# EAGLE library part GP2Y0D810Z0F (library SharpGP2Y0D810Z0F)
Sharpt GP2Y0D810Z0F 10cm IR proximity sensor
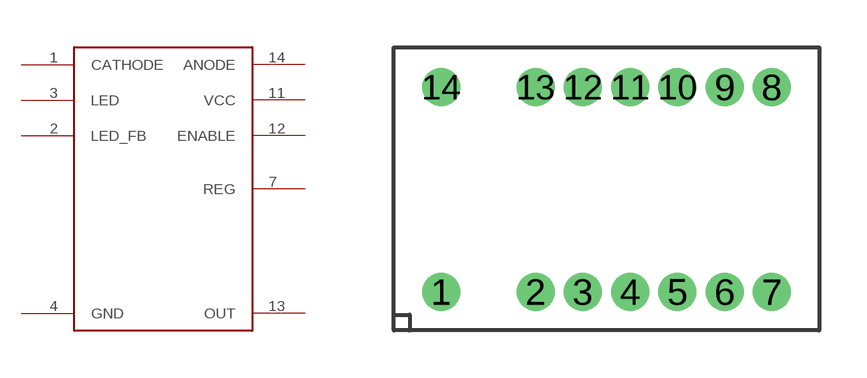
[diagram p0: symbol with the pads of LP16PIN; footprint LP16PIN]

Designator prefix -

## GP2Y0D810Z0F  [LP16PIN]
1  CATHODE  in
2  LED_FB  in
3  LED  in
4  GND  in
7  REG  in
11  VCC  in
12  ENABLE  in
13  OUT  in
14  ANODE  in

## Footprint LP16PIN (pad centres in mm)
Sharp GP2Y0D810Z0F Low profile Package size : 13.6×7×7.95 mm 14 Pin
drill 0.7 round: 1 0,0.73; 2 3,0.73; 3 4.5,0.73; 4 6,0.73; 5 7.5,0.73; 6 9,0.73; 7 10.5,0.73; 8 10.5,7.23; 9 9,7.23; 10 7.5,7.23; 11 6,7.23; 12 4.5,7.23; 13 3,7.23; 14 0,7.23